# EAGLE library part 22P (library con-dg55)
DEGSON DG55 CONNECTOR
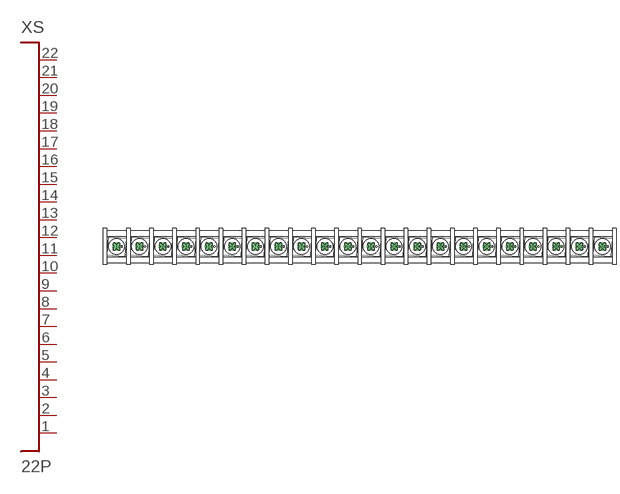
[diagram p16: symbol with the pads of DG55CB-22P-1; footprint DG55CB-22P-1]

Designator prefix XS

## 22P  [DG55CB-22P-1]
1  P$1
2  P$2
3  P$3
4  P$4
5  P$5
6  P$6
7  P$7
8  P$8
9  P$9
10  P$10
11  P$11
12  P$12
13  P$13
14  P$14
15  P$15
16  P$16
17  P$17
18  P$18
19  P$19
20  P$20
21  P$21
22  P$22

## Footprint DG55CB-22P-1 (pad centres in mm)
DG55
drill 1.8 pad 3.6: 1 -105,0; 2 -95,0; 3 -85,0; 4 -75,0; 5 -65,0; 6 -55,0; 7 -45,0; 8 -35,0; 9 -25,0; 10 -15,0; 11 -5,0; 12 5,0; 13 15,0; 14 25,0; 15 35,0; 16 45,0; 17 55,0; 18 65,0; 19 75,0; 20 85,0; 21 95,0; 22 105,0